# Altium schematic symbol library AFE.SchLib: 11 symbols
Pins are listed as number, name and electrical type; pins without a type are passive.

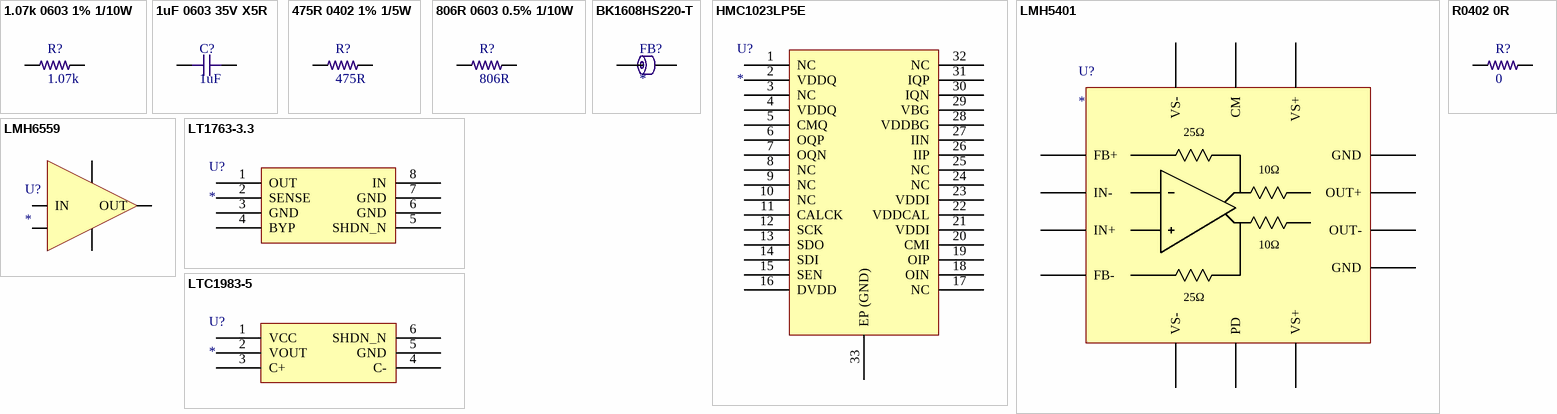
[diagram p0: symbols 1.07k 0603 1% 1/10W to R0402 0R]

## 1.07k 0603 1% 1/10W
designator R?, comment 1.07k
RES SMD 1.07K OHM 1% 1/10W 0603; Manufacturer: Stackpole Electronics; Manufacturer Part Number: RMCF0603FT1K07; Resistance: 1.07kR; Max Power Dissipation: 100mW; Temperature Coefficient: 100ppm/°C; Supplier 1: Digi-Key; RoHS: Yes; Category: Chip SMD Resistors; Stock 1: 16341; Pricing 1: 1=0.10000, 10=0.01600, 100=0.00650, 1000=0.00292, 2500=0.00253 (USD); Mount: Surface Mount; Case/Package: 0603; Case Code (Metric): 1608; Case Code (Imperial): 0603; Contact Plating: Tin,Matte; Min Operating Temperature: -55°C; Max Operating Temperature: 155°C; Packaging: Tape and Reel; Tolerance: 1%; Resistor Type: Thick Film; Number of Terminations: 2; Features: Automotive AEC-Q200; Series: RMCF; Length: 0.061inch; Width: 0.031inch; Height: 0.022inch; Radiation Hardening: No; Lead Free: Lead Free; RoHS Compliant: Yes; ComponentLink1URL: https://www.seielect.com/catalog/SEI-RMCF_RMCP.pdf?src-supplier=Avnet; ComponentLink1Description: https://www.seielect.com/catalog/SEI-RMCF_RMCP.pdf?src-supplier=Avnet; ComponentLink2URL: https://www.seielect.com/Catalog/SEI-RMCF_RMCP.pdf?src-supplier=Digi-Key; ComponentLink2Description: https://www.seielect.com/Catalog/SEI-RMCF_RMCP.pdf?src-supplier=Digi-Key; ComponentLink3URL: https://www.seielect.com/catalog/SEI-Packaging.pdf?src-supplier=Digi-Key; ComponentLink3Description: https://www.seielect.com/catalog/SEI-Packaging.pdf?src-supplier=Digi-Key; Supplier Part Number 1: RMCF0603FT1K07CT-ND
footprint R0603-HIGH-DENSITY (Chip Resistor, 2-Leads, Body 1.60x0.80mm, IPC High Density)
pins: 1, 2

## 1uF 0603 35V X5R
designator C?, comment 1uF
CAP CER 1UF 35V X5R 0603; Manufacturer: Taiyo Yuden; Manufacturer Part Number: GMK107BJ105MAHT; Tolerance: 20%; Supplier 1: Digi-Key; RoHS: Yes; Category: Ceramic Capacitors; Stock 1: 1779; Pricing 1: 1=0.19000, 10=0.13300, 50=0.07960, 100=0.06730, 500=0.04604, 1000=0.04073 (USD); Mount: Surface Mount; Case/Package: 0603; Min Operating Temperature: -55°C; Max Operating Temperature: 85°C; Packaging: Tape and Reel; Capacitance: 1uF; Voltage Rating: 35V; Ratings: AEC-Q200; RoHS Compliant: Yes; ComponentLink1URL: http://ds.yuden.co.jp/TYCOMPAS/ut/detail.do?productNo=GMK107BJ105MAHT&amp;fileName=GMK107BJ105MAHT_SS&amp;mode=specSheetDownload&src-supplier=Digi-Key; ComponentLink1Description: http://ds.yuden.co.jp/TYCOMPAS/ut/detail.do?productNo=GMK107BJ105MAHT&amp;fileName=GMK107BJ105MAHT_SS&amp;mode=specSheetDownload&src-supplier=Digi-Key; Supplier Part Number 1: 587-6315-1-ND
footprint C0603-HIGH-DENSITY (Chip Capacitor, 2-Leads, Body 1.60x0.80mm, IPC High Density)
pins: 1, 2

## 475R 0402 1% 1/5W
designator R?, comment 475R
RES SMD 475 OHM 1% 1/5W 0402; Manufacturer: Vishay Dale; Manufacturer Part Number: CRCW0402475RFKEDHP; Max Power Dissipation: 125mW; Temperature Coefficient: 100ppm/°C; Supplier 1: Digi-Key; RoHS: Yes; Category: Chip SMD Resistors; Stock 1: 9500; Pricing 1: 1=0.14000, 10=0.12600, 100=0.04840, 1000=0.02130, 2500=0.01839, 5000=0.01646 (USD); Case/Package: 0402; Contact Plating: Tin; Min Operating Temperature: -55°C; Max Operating Temperature: 155°C; Resistance: 475R; Tolerance: 1%; Package Quantity: 10000; Packaging: Tape and Reel; Resistor Type: Thick Film; Number of Terminations: 2; Features: Automotive AEC-Q200; Series: CRCW-HP; Length: 0.039inch; Width: 0.02inch; Height: 0.016inch; Radiation Hardening: No; Lead Free: Lead Free; RoHS Compliant: Yes; ComponentLink1URL: https://datasheet.ciiva.com/8898/crcwhpe3-8898762.pdf?src-supplier=Avnet; ComponentLink1Description: https://datasheet.ciiva.com/8898/crcwhpe3-8898762.pdf?src-supplier=Avnet; ComponentLink2URL: https://datasheet.ciiva.com/2573/crcwhpe3-2573100.pdf?src-supplier=Digi-Key; ComponentLink2Description: https://datasheet.ciiva.com/2573/crcwhpe3-2573100.pdf?src-supplier=Digi-Key; Supplier Part Number 1: 541-CRCW0402475RFKEDHPCT-ND
footprint R0402-HIGH-DENSITY (Chip Resistor, 2-Leads, Body 1.00x0.50mm, IPC High Density)
pins: 1, 2

## 806R 0603 0.5% 1/10W
designator R?, comment 806R
RES 806 OHM 0.5% 1/10W 0603; Manufacturer: Stackpole Electronics; Manufacturer Part Number: RNCF0603DTE806R; Power Rating: 63mW; Supplier 1: Digi-Key; RoHS: Yes; Category: Chip SMD Resistors; Stock 1: 7286; Pricing 1: 1=0.13000, 10=0.11000, 100=0.04300, 1000=0.01800, 2500=0.01650 (USD); Mount: Surface Mount; Case/Package: 0603; Min Operating Temperature: -55°C; Max Operating Temperature: 155°C; Resistance: 806R; Tolerance: 0.5%; Packaging: Tape and Reel; RoHS Compliant: Yes; ComponentLink1URL: https://www.seielect.com/catalog/sei-rncf.pdf?src-supplier=Digi-Key; ComponentLink1Description: https://www.seielect.com/catalog/sei-rncf.pdf?src-supplier=Digi-Key; Supplier Part Number 1: RNCF0603DTE806RCT-ND
footprint R0603-HIGH-DENSITY (Chip Resistor, 2-Leads, Body 1.60x0.80mm, IPC High Density)
pins: 1, 2

## BK1608HS220-T
designator FB?
Ferrite Beads Multi-Layer 22Ohm 25% 100MHz 1.5A 0.05Ohm DCR 0603 T/R; Manufacturer: Taiyo Yuden; Manufacturer Part Number: BK1608HS220-T; Impedance: 22R; DC Resistance (DCR): 50mR; Number of Lines: 1; Shielding: Shielded; Supplier 1: Digi-Key; RoHS: Yes; Category: Ferrite Beads and Chips; Stock 1: 23669; Pricing 1: 1=0.10000, 10=0.07200, 25=0.06560, 50=0.05900, 100=0.04320, 250=0.03144, 500=0.02882, 1000=0.02489 (USD); Mount: Surface Mount; Case/Package: 0603; Number of Pins: 2; Core Material: Ferrite; Case Code (Metric): 1608; Case Code (Imperial): 0603; Min Operating Temperature: -55°C; Max Operating Temperature: 125°C; Package Quantity: 1; Packaging: Tape and Reel; Tolerance: 25%; Max DC Current: 1.5A; Termination: SMD/SMT; Test Frequency: 100MHz; Resistance: 50mR; Max Current Rating: 1.5A; Series: BK; Frequency: 100MHz; Length: 0.063inch; Width: 0.031inch; Height: 0.037inch; Depth: 0.95mm; RoHS Compliant: Yes; REACH SVHC: No SVHC; Lead Free: Lead Free; Halogen Free: Halogen Free; ComponentLink1URL: https://datasheet.ciiva.com/1011/bk1608hs220-t-ss-1011861.pdf?src-supplier=Digi-Key; ComponentLink1Description: https://datasheet.ciiva.com/1011/bk1608hs220-t-ss-1011861.pdf?src-supplier=Digi-Key; ComponentLink2URL: https://datasheet.ciiva.com/1011/mlci07-e-1011862.pdf?src-supplier=Digi-Key; ComponentLink2Description: https://datasheet.ciiva.com/1011/mlci07-e-1011862.pdf?src-supplier=Digi-Key; ComponentLink3URL: https://datasheet.ciiva.com/1011/mlci07-e-1011863.pdf?src-supplier=Digi-Key; ComponentLink3Description: https://datasheet.ciiva.com/1011/mlci07-e-1011863.pdf?src-supplier=Digi-Key; ComponentLink4URL: https://datasheet.ciiva.com/5821/mlci07-e-5821271.pdf?src-supplier=Farnell; ComponentLink4Description: https://datasheet.ciiva.com/5821/mlci07-e-5821271.pdf?src-supplier=Farnell; ComponentLink5URL: https://datasheet.ciiva.com/7620/1734576-7620028.pdf?src-supplier=Element14; ComponentLink5Description: https://datasheet.ciiva.com/7620/1734576-7620028.pdf?src-supplier=Element14; Supplier Part Number 1: 587-1869-1-ND
footprint L0603
pins: 1, 2

## HMC1023LP5E
designator U?
Active Filter Dual Low Pass Filter 6th Order 72MHz 32-Pin QFN Bulk; Manufacturer: Analog Devices; Manufacturer Part Number: HMC1023LP5E; Operating Supply Voltage: 5V; Min Supply Voltage: 4.75V; Max Supply Voltage: 5.25V; Frequency: 100MHz; Number of Channels: 2; Supplier 1: Digi-Key; RoHS: Yes; Category: Integrated Circuits (ICs); Stock 1: 38; Pricing 1: 1=25.14000, 10=24.35000, 25=23.56480, 50=22.77960, 100=21.99400, 250=20.89432 (USD); Mount: Surface Mount; Case/Package: QFN; Number of Pins: 32; Weight: 0.006653oz; Contact Plating: Tin,Matte; Min Operating Temperature: -40°C; Max Operating Temperature: 85°C; Packaging: Cut Tape; Package Quantity: 1; Bandwidth: 72MHz; Number of Circuits: 2; Max Frequency: 72MHz; Length: 0.197inch; Width: 0.197inch; Height: 0.039inch; REACH SVHC: Unknown; Lead Free: Contains Lead; RoHS Compliant: Yes; ComponentLink1URL: https://datasheet.ciiva.com/29361/hmc1023lp5-29361744.pdf?src-supplier=Digi-Key; ComponentLink1Description: https://datasheet.ciiva.com/29361/hmc1023lp5-29361744.pdf?src-supplier=Digi-Key; Supplier Part Number 1: 1127-1662-ND
footprint HMC1023 (QFN, 32-Leads, Body 5.00x5.00mm, Pitch 0.50mm, Thermal Pad 3.80x3.80mm, IPC Medium Density)
pins: 1 NC, 2 VDDQ, 3 NC, 4 VDDQ, 5 CMQ, 6 OQP, 7 OQN, 8 NC, 9 NC, 10 NC, 11 CALCK, 12 SCK, 13 SDO, 14 SDI, 15 SEN, 16 DVDD, 17 NC, 18 OIN, 19 OIP, 20 CMI, 21 VDDI, 22 VDDCAL, 23 VDDI, 24 NC, 25 NC, 26 IIP, 27 IIN, 28 VDDBG, 29 VBG, 30 IQN, 31 IQP, 32 NC, 33 EP (GND)

## LMH5401
designator U?
TEXAS INSTRUMENTS - LMH5401IRMST - DIFF AMP, 6.2GHZ, 17.5KV/US, UQFN-14; Min Supply Voltage: 3.15V; Max Supply Voltage: 5.25V; Min Dual Supply Voltage: 1.575V; Max Dual Supply Voltage: 2.625V; Number of Circuits: 1; Slew Rate: 17500V/µs; Gain Bandwidth Product: 8GHz; -3db Bandwidth: 1.2GHz; Operating Supply Current: 55mA; Output Current per Channel: 50mA; Frequency: 2GHz; Gain: 6dB; Operating Supply Voltage: 5V; Supplier 1: Digi-Key; Manufacturer: Texas Instruments; Manufacturer Part Number: LMH5401IRMST; RoHS: Yes; Category: Amplifiers - Op Amps, Buffer, Instrumentation; Stock 1: 1716; Pricing 1: 1=17.26000, 10=15.86500, 25=15.20760, 100=12.74150 (USD); Mount: Surface Mount; Number of Pins: 14; Weight: 0.000353oz; Min Operating Temperature: -40°C; Max Operating Temperature: 85°C; Packaging: Tape and Reel; Number of Amplifiers: 1; Bandwidth: 8GHz; Number of Channels: 1; Package Quantity: 250; REACH SVHC: No SVHC; Lead Free: Lead Free; RoHS Compliant: Yes; ComponentLink1URL: https://datasheet.ciiva.com/48505/lmh5401-48505045.pdf?src-supplier=Avnet; ComponentLink1Description: https://datasheet.ciiva.com/48505/lmh5401-48505045.pdf?src-supplier=Avnet; Supplier Part Number 1: 296-38513-1-ND
footprint LMH5401
pins: 1 VS+, 2 CM, 3 VS-, 4 FB+, 5 IN-, 6 IN+, 7 FB-, 8 VS-, 9 PD, 10 VS+, 11 GND, 12 OUT-, 13 OUT+, 14 GND
text: 25Ω; 10Ω

## LMH6559
designator U?
OP Amp Buffer Single GP 10V 5-Pin SOT-23 T/R; Manufacturer: TI National Semiconductor; Manufacturer Part Number: LMH6559MF/NOPB; Min Supply Voltage: 3V; Voltage Gain: 59.98dB; Output Current: 75mA; Number of Channels: 1; Slew Rate: 4580V/µs; Nominal Supply Current: 10mA; Operating Supply Voltage: 5V; Input Bias Current: 3uA; Input Offset Voltage (Vos): 3mV; Output Current per Channel: 74mA; Min Dual Supply Voltage: 1.5V; Power Supply Rejection Ratio (PSRR): 44dB; -3db Bandwidth: 1.75GHz; Supplier 1: Digi-Key; RoHS: No; Category: Amplifiers - Op Amps, Buffer, Instrumentation; Stock 1: 2784; Pricing 1: 1=2.89000, 10=2.59800, 25=2.45640, 100=2.01980, 250=1.81240, 500=1.74688 (USD); Mount: Surface Mount; Case/Package: SOT-23; Number of Pins: 5; Min Operating Temperature: -40°C; Max Operating Temperature: 85°C; Max Supply Voltage: 10V; Packaging: Tape and Reel; Package Quantity: 1000; Number of Circuits: 1; Supply Current: 10mA; Amplifier Type: BUFFER; Number of Elements: 1; Series: -; Number of Amplifiers: 1; Bandwidth: 1.75GHz; Termination: SMD/SMT; Length: 2.92mm; Width: 1.6mm; Height: 1.02mm; Radiation Hardening: No; Lead Free: Lead Free; REACH SVHC: No SVHC; ComponentLink1URL: https://datasheet.ciiva.com/15130/getdatasheetpartid-68437-15130143.pdf?src-supplier=Verical; ComponentLink1Description: https://datasheet.ciiva.com/15130/getdatasheetpartid-68437-15130143.pdf?src-supplier=Verical; ComponentLink2URL: https://datasheet.ciiva.com/2975/lmh6559-2975204.pdf?src-supplier=Avnet; ComponentLink2Description: https://datasheet.ciiva.com/2975/lmh6559-2975204.pdf?src-supplier=Avnet; ComponentLink3URL: https://datasheet.ciiva.com/2975/lmh6559-2975205.pdf?src-supplier=Avnet; ComponentLink3Description: https://datasheet.ciiva.com/2975/lmh6559-2975205.pdf?src-supplier=Avnet; ComponentLink4URL: https://datasheet.ciiva.com/6630/lmh6559-6630632.pdf?src-supplier=Digi-Key; ComponentLink4Description: https://datasheet.ciiva.com/6630/lmh6559-6630632.pdf?src-supplier=Digi-Key; ComponentLink5URL: https://datasheet.ciiva.com/6630/lmh6559-6630633.pdf?src-supplier=Digi-Key; ComponentLink5Description: https://datasheet.ciiva.com/6630/lmh6559-6630633.pdf?src-supplier=Digi-Key; ComponentLink6URL: https://datasheet.ciiva.com/6630/lmh6559-6630634.pdf?src-supplier=Digi-Key; ComponentLink6Description: https://datasheet.ciiva.com/6630/lmh6559-6630634.pdf?src-supplier=Digi-Key; ComponentLink7URL: https://datasheet.ciiva.com/4756/lmh6559-4756997.pdf?src-supplier=Mouser; ComponentLink7Description: https://datasheet.ciiva.com/4756/lmh6559-4756997.pdf?src-supplier=Mouser; ComponentLink8URL: https://datasheet.ciiva.com/14094/lmh6559-eng-tds-14094141.pdf?src-supplier=Distrelec; ComponentLink8Description: https://datasheet.ciiva.com/14094/lmh6559-eng-tds-14094141.pdf?src-supplier=Distrelec; ComponentLink9URL: https://datasheet.ciiva.com/26223/lmh6559-26223561.pdf?src-supplier=Avnet+Europe; ComponentLink9Description: https://datasheet.ciiva.com/26223/lmh6559-26223561.pdf?src-supplier=Avnet+Europe; Supplier Part Number 1: LMH6559MF/NOPBCT-ND
footprint LMH6559
pins: 1 OUT, 2 V-, 3 NC, 4 IN, 5 V+

## LT1763-3.3
designator U?
LDO Regulator Pos 3.3V 0.5A Automotive 8-Pin SOIC N Tube; Manufacturer: Analog Devices / Linear Technology; Manufacturer Part Number: LT1763CS8-3.3#PBF; Output Current: 500mA; Dropout Voltage: 300mV; Number of Outputs: 1; Max Input Voltage: 20V; Min Input Voltage: 1.8V; Min Current Limit: 520mA; Polarity: Positive; Quiescent Current: 30uA; Reference Voltage: 1.22V; Power Supply Rejection Ratio (PSRR): 65dB; Output Type: Fixed; Supplier 1: Digi-Key; RoHS: Yes; Category: Voltage Regulators - Linear; Stock 1: 7556; Pricing 1: 1=5.20000, 10=4.66700, 25=4.41240, 100=3.82400, 250=3.62784, 500=3.25526, 1000=2.77500 (USD); Case/Package: SOIC; Number of Pins: 8; Min Operating Temperature: -40°C; Max Operating Temperature: 125°C; Package Quantity: 100; Packaging: Rail/Tube; Max Output Current: 500mA; Nominal Output Voltage: 3.3V; Output Voltage: 3.3V; Number of Regulators: 1; Operating Supply Current: 30uA; Series: -; Length: 5mm; Width: 3.988mm; Height: 1.5mm; REACH SVHC: No SVHC; Lead Free: Lead Free; RoHS Compliant: Yes; ComponentLink1URL: https://datasheet.ciiva.com/14150/ef640087-e-14150152.pdf?src-supplier=Distrelec; ComponentLink1Description: https://datasheet.ciiva.com/14150/ef640087-e-14150152.pdf?src-supplier=Distrelec; ComponentLink2URL: https://datasheet.ciiva.com/2041/3903-2041558.pdf?src-supplier=Digi-Key; ComponentLink2Description: https://datasheet.ciiva.com/2041/3903-2041558.pdf?src-supplier=Digi-Key; ComponentLink3URL: https://datasheet.ciiva.com/5698/1599494-5698296.pdf?src-supplier=Farnell; ComponentLink3Description: https://datasheet.ciiva.com/5698/1599494-5698296.pdf?src-supplier=Farnell; Supplier Part Number 1: LT1763CS8-3.3#PBF-ND
footprint LT1763-3.3 (SOIC, 8-Leads, Body 4.90x3.90mm, Pitch 1.27mm, IPC Medium Density)
pins: 1 OUT, 2 SENSE, 3 GND, 4 BYP, 5 SHDN_N, 6 GND, 7 GND, 8 IN

## LTC1983-5
designator U?
IC REG SWTCHD CAP INV -5V SOT23; Manufacturer: Analog Devices / Linear Technology; Manufacturer Part Number: LTC1983ES6-5#TRPBF; Max Supply Voltage: 5.5V; Min Supply Voltage: 2.3V; Output Current: 100mA; Output Voltage: -5.5V; Number of Outputs: 1; Min Input Voltage: 5V; Switching Frequency: 900kHz; Synchronous Rectifier: No; Operating Supply Current: 25uA; Output Type: Fixed; Supplier 1: Digi-Key; RoHS: Yes; Category: Voltage Regulators - Switching; Stock 1: 5862; Pricing 1: 1=4.83000, 10=4.33900, 25=4.10240, 100=3.37290, 250=3.02652, 500=2.91712, 1000=2.42486 (USD); Case/Package: SOT-23-6; Number of Pins: 6; Min Operating Temperature: -40°C; Max Operating Temperature: 85°C; Package Quantity: 2500; Max Output Current: 100mA; Packaging: Tape and Reel; Max Input Voltage: 5.5V; Series: -; Radiation Hardening: No; Lead Free: Lead Free; RoHS Compliant: Yes; ComponentLink1URL: https://datasheet.ciiva.com/15114/getdatasheetpartid-371063-15114160.pdf?src-supplier=Verical; ComponentLink1Description: https://datasheet.ciiva.com/15114/getdatasheetpartid-371063-15114160.pdf?src-supplier=Verical; ComponentLink2URL: https://datasheet.ciiva.com/26898/ltc1983es6-5-trpbf-26898763.pdf?src-supplier=IIIC; ComponentLink2Description: https://datasheet.ciiva.com/26898/ltc1983es6-5-trpbf-26898763.pdf?src-supplier=IIIC; ComponentLink3URL: https://datasheet.ciiva.com/2030/2135-2030773.pdf?src-supplier=Digi-Key; ComponentLink3Description: https://datasheet.ciiva.com/2030/2135-2030773.pdf?src-supplier=Digi-Key; Supplier Part Number 1: LTC1983ES6-5#TRPBFCT-ND
footprint LTC1983-5 (SOT23, 6-Leads, Body 2.90x2.80mm, Pitch 0.95mm, IPC Medium Density)
pins: 1 VCC, 2 VOUT, 3 C+, 4 C-, 5 GND, 6 SHDN_N

## R0402 0R
designator R?  value 0  (hidden comment: *)
Chip Resistor, 0402, 0 ohm jumper; Supplier 1: Digi-Key; Supplier Part Number 1: 311-0.0JRCT-ND
footprint R0402-HIGH-DENSITY (Chip Resistor, 2-Leads, Body 1.00x0.50mm, IPC High Density)
pins: 1, 2